# Altium footprint library PcbLib1.PcbLib: 27 footprints (part 1 of 4)
Each footprint in its own frame and in the unit in brackets; x right, y up, seen from the top. Pads: shape width x height; smd on the part's side, far side on the other; paste and mask are expansions set on the pad; w line width, h text height; cw(c..) or ccw(c..) is an arc to the next point about the centre after c.
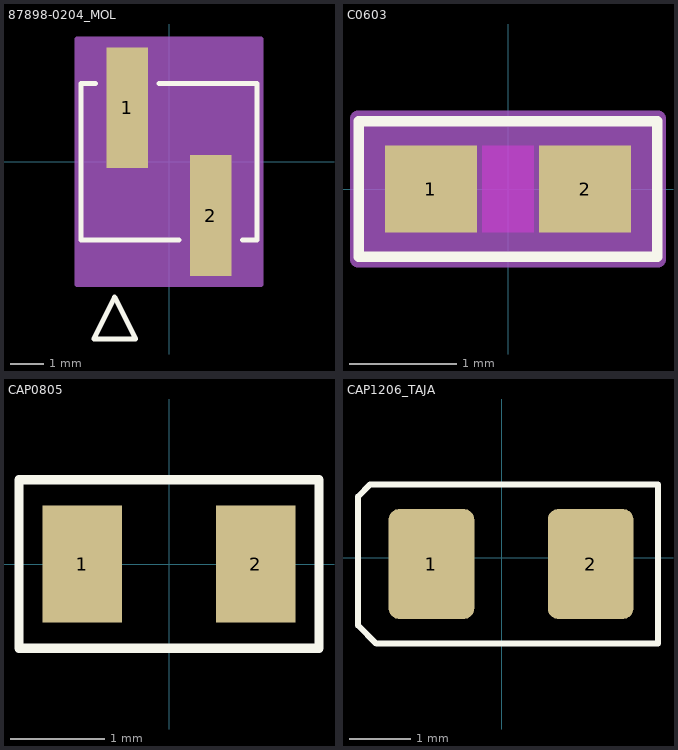
[diagram p0: the footprints below, top view; thin cyan lines are the x and y axes]

## 87898-0204_MOL [mil]
pads (2):
  rect 50x144.56 smd paste+0 mask+0: 1(-50,64.5) 2(50,-64.5)
Top Overlay:
  lines w6: -88.1,93.5 -105,93.5 -105,-93.5 11.9,-93.5 ; -11.9,93.5 105,93.5 105,-93.5 88.1,-93.5 ; -90,-212.16 -65,-162.16 -40,-212.16 -90,-212.16
Mechanical 13:
  lines w1: -100,-88.5 100,-88.5 100,88.5 -100,88.5 -100,-88.5 ; -90,-212.16 -65,-162.16 -40,-212.16 -90,-212.16
Mechanical 15:
  region: 110,-146.78 110,146.78 -110,146.78 -110,-146.78
  lines w6: -110,-146.78 -110,146.78 110,146.78 110,-146.78 -110,-146.78
3D body "87898-0204_MOL.step": height 425.98, standoff 0, extent -100,-117.01 100,117.01

## C0603 [mil]
pads (2):
  rect 33.78x32 smd paste+0 mask+0: 1(-28.39,0) 2(28.39,0)
Top Layer keep-out:
  region: -9.5,-14 -9.5,14 9.5,14 9.5,-14
Top Overlay:
  lines w3.94: -55,-25 55,-25 55,25 -55,25 -55,-25
Keep-Out Layer:
  region: -9.5,-16 -9.5,16 9.5,16 9.5,-16
Mechanical 13:
  circle w0: c-23.39,0 r3
  lines w1: -31.5,-16 -31.5,16 ; -31.5,-16 -11.5,-16 -11.5,16 -31.5,16 ; -31.5,-16 31.5,-16 ; -31.5,-16 -31.5,16 ; -31.5,16 31.5,16 ; 31.5,-16 11.5,-16 11.5,16 31.5,16 ; 31.5,-16 31.5,16 ; 31.5,-16 31.5,16
Mechanical 15:
  region: 55.28,-26 -55.28,-26 -55.28,26 55.28,26
  lines w6: -55.28,-26 -55.28,26 55.28,26 55.28,-26 -55.28,-26
3D body "G-188_MUR.step": height 35, standoff 0, extent -31.5,-15.98 31.5,15.98

## CAP0805 [mm]
pads (2):
  rect 0.85x1.25 smd: 1(-0.925,0) 2(0.925,0)
Top Overlay:
  lines w0.1: -1.6,-0.9 1.6,-0.9 1.6,0.9 -1.6,0.9 -1.6,-0.9
3D body "CAP_CL21_SAM.step": height 1.35, standoff 0, extent -1,-0.625 1,0.625

## CAP1206_TAJA [mm]
pads (2):
  rrect25% 1.4x1.8 smd: 1(-1.15,-0.1) 2(1.45,-0.1)
Top Overlay:
  lines w0.1: -2.35,-1.1 -2.35,1 -2.15,1.2 2.55,1.2 2.55,-1.4 1.4,-1.4 -0.9,-1.4 -2.05,-1.4 -2.35,-1.1
3D body "TAJA_AVX.step": height 1.85, standoff 0, extent -1.552,-1.002 1.852,0.802